# Altium schematic symbol library PB400EEQR1BLK.SchLib: 1 symbol
Pins are listed as number, name and electrical type; pins without a type are passive.

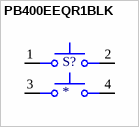
[diagram p0: symbol PB400EEQR1BLK]

## PB400EEQR1BLK
designator S?
Pushbutton Switch, PB400, DPST,OFF-ON, Round Actuator ,Black, 3A,30VDC, R/A PC; MP: PB400EEQR1BLK; MF: E-Switch; Value: *; SnapEDA_Link: https://www.snapeda.com/parts/PB400EEQR1BLK/E-Switch/view-part/?ref=snap; Purchase-URL: https://pricing.snapeda.com/search/part/PB400EEQR1BLK/?ref=eda; Check_prices: https://www.snapeda.com/parts/PB400EEQR1BLK/E-Switch/view-part/?ref=eda; Availability: In Stock; Price: None; Package: None
footprint SW_PB400EEQR1BLK
pins: 1, 2, 3, 4